# Altium integrated library BD5230G.IntLib: 1 symbol
Pins are listed as number, name and electrical type; pins without a type are passive.

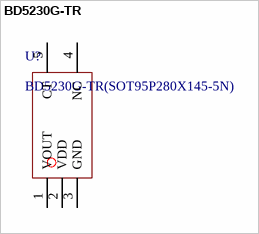
[diagram p0: symbol BD5230G-TR]

## BD5230G-TR
designator U?, comment BD5230G-TR(SOT95P280X145-5N)
footprint BD5230G-TR(SOT95P280X145-5N) (SOT23, 5-Leads, Body 2.9x2.8mm (max), Pitch 0.95mm, IPC Medium Density)
pins: 1 VOUT, 2 VDD, 3 GND, 4 NC, 5 CT